# Altium schematic symbol library LAN9514.SchLib: 1 symbol
Pins are listed as number, name and electrical type; pins without a type are passive.

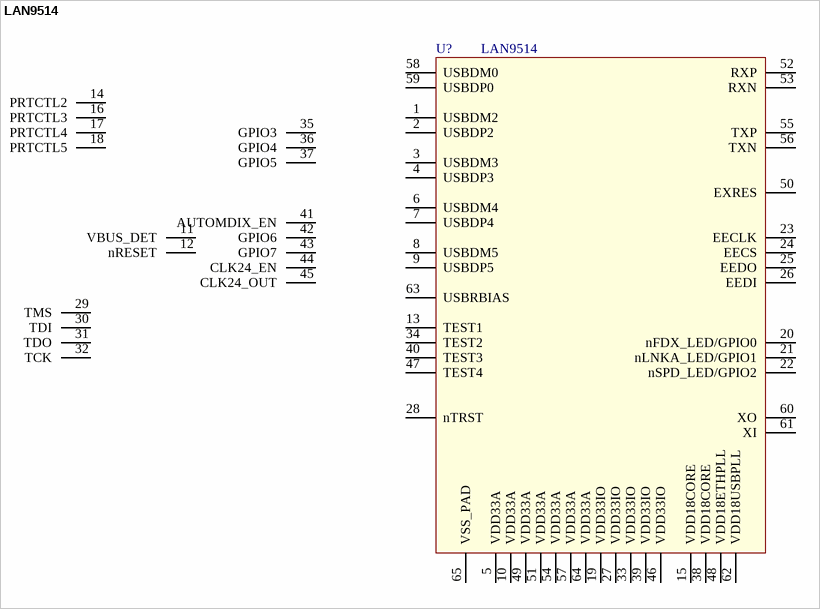
[diagram p0: symbol LAN9514]

## LAN9514
designator U?
USB 2.0 Hub and 10/100 Ethernet Controller; Value: LAN9514
pins: 1 USBDM2, 2 USBDP2, 3 USBDM3, 4 USBDP3, 5 VDD33A, 6 USBDM4, 7 USBDP4, 8 USBDM5, 9 USBDP5, 10 VDD33A, 11 VBUS_DET, 12 nRESET, 13 TEST1, 14 PRTCTL2, 15 VDD18CORE, 16 PRTCTL3, 17 PRTCTL4, 18 PRTCTL5, 19 VDD33IO, 20 nFDX_LED/GPIO0, 21 nLNKA_LED/GPIO1, 22 nSPD_LED/GPIO2, 23 EECLK, 24 EECS, 25 EEDO, 26 EEDI, 27 VDD33IO, 28 nTRST, 29 TMS, 30 TDI, 31 TDO, 32 TCK, 33 VDD33IO, 34 TEST2, 35 GPIO3, 36 GPIO4, 37 GPIO5, 38 VDD18CORE, 39 VDD33IO, 40 TEST3, 41 AUTOMDIX_EN, 42 GPIO6, 43 GPIO7, 44 CLK24_EN, 45 CLK24_OUT, 46 VDD33IO, 47 TEST4, 48 VDD18ETHPLL, 49 VDD33A, 50 EXRES, 51 VDD33A, 52 RXP, 53 RXN, 54 VDD33A, 55 TXP, 56 TXN, 57 VDD33A, 58 USBDM0, 59 USBDP0, 60 XO, 61 XI, 62 VDD18USBPLL, 63 USBRBIAS, 64 VDD33A, 65 VSS_PAD